# Altium footprint library drone_pcb1.PcbLib: 55 footprints (part 1 of 4)
Each footprint in its own frame and in the unit in brackets; x right, y up, seen from the top. Pads: shape width x height; smd on the part's side, far side on the other; paste and mask are expansions set on the pad; w line width, h text height; cw(c..) or ccw(c..) is an arc to the next point about the centre after c.
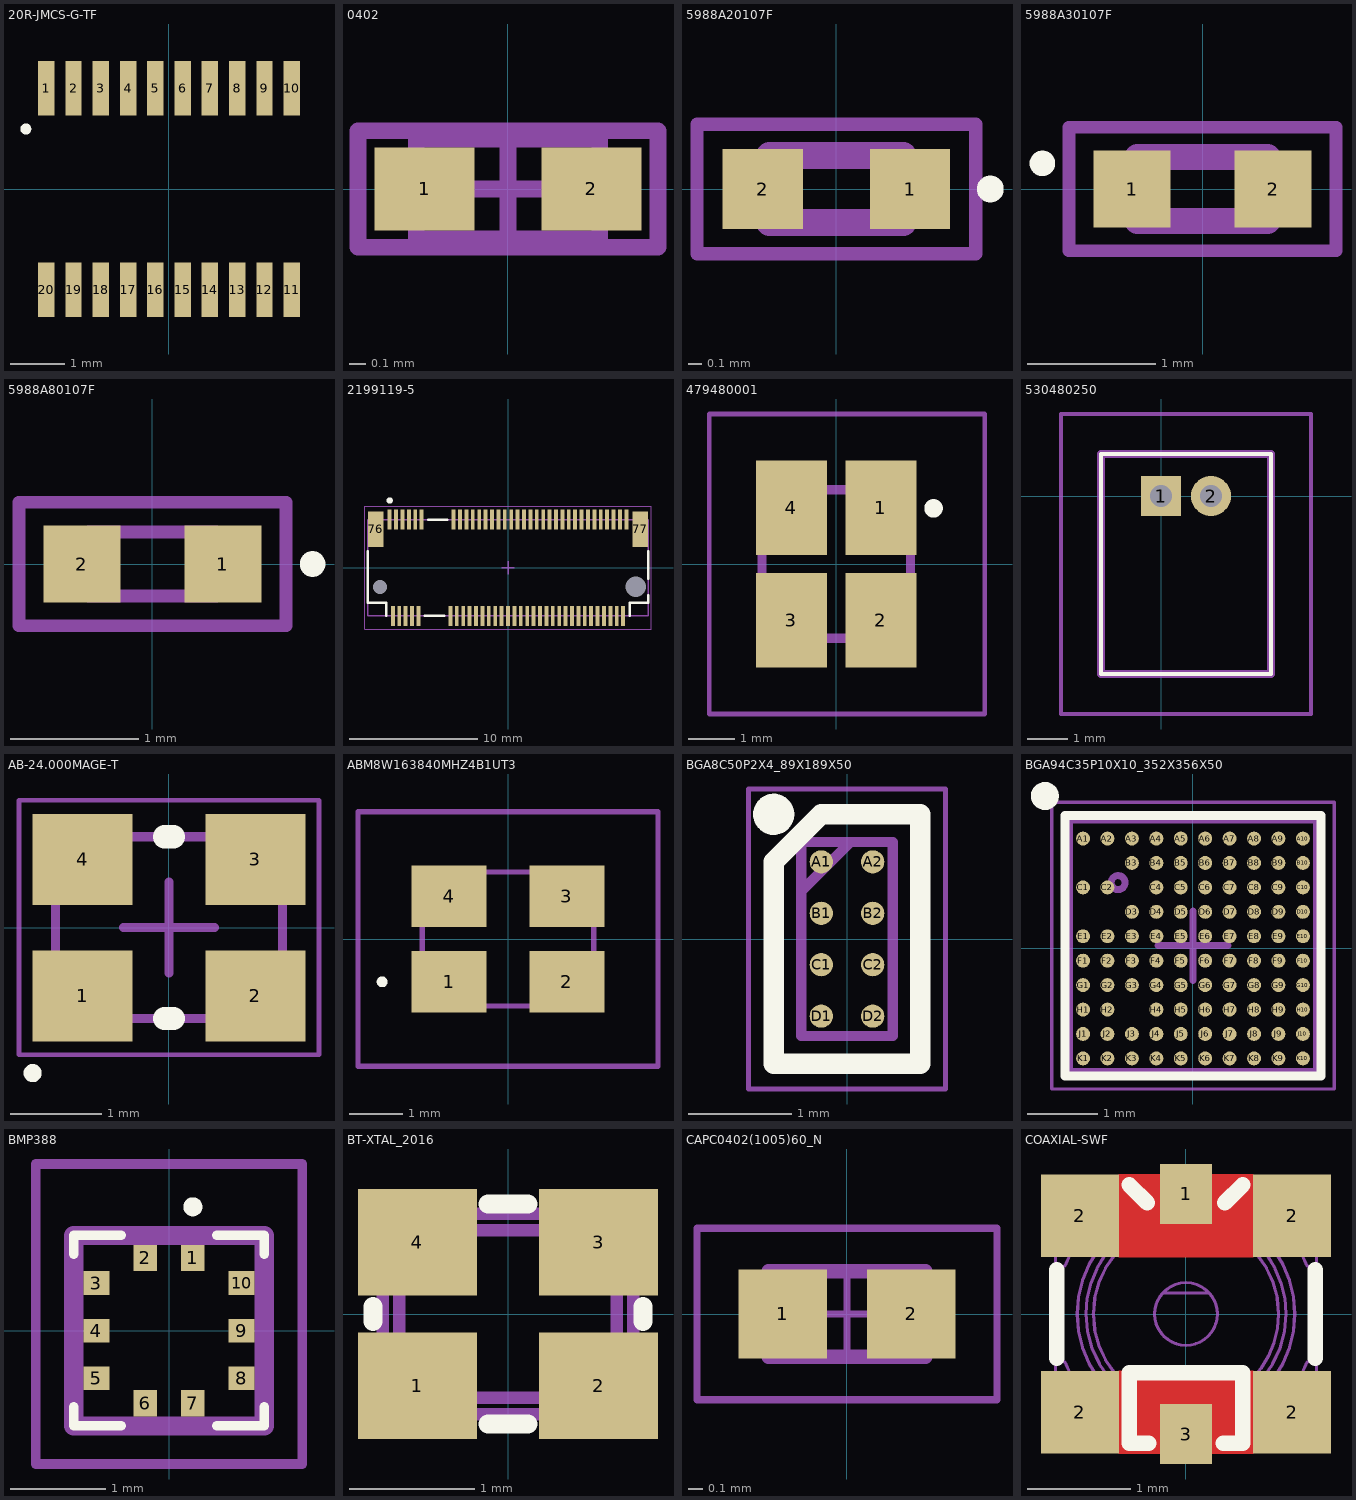
[diagram p0: the footprints below, top view; thin cyan lines are the x and y axes]

## 20R-JMCS-G-TF [mm]
pads (20):
  rect 0.3x1 smd mask+0.102: 1(-2.25,1.85) 2(-1.75,1.85) 3(-1.25,1.85) 4(-0.75,1.85) 5(-0.25,1.85) 6(0.25,1.85) 7(0.75,1.85) 8(1.25,1.85) 9(1.75,1.85) 10(2.25,1.85) 11(2.25,-1.85) 12(1.75,-1.85) 13(1.25,-1.85) 14(0.75,-1.85) 15(0.25,-1.85) 16(-0.25,-1.85) 17(-0.75,-1.85) 18(-1.25,-1.85) 19(-1.75,-1.85) 20(-2.25,-1.85)
Top Overlay:
  circle w0.1: c-2.625,1.1 r0.05

## 0402 [mm] "Chip Capacitor, Body 1.0x0.5mm, IPC High Density"
height 1.3
pads (2):
  rect 0.6x0.5 smd: 1(-0.5,0) 2(0.5,0)
Mechanical 13:
  lines w0.1: -0.55,-0.3 0.55,-0.3 0.55,0.3 -0.55,0.3 -0.55,-0.3
Mechanical 15:
  lines w0.1: -0.3,0 0.3,0 ; 0,-0.3 0,0.3 ; -0.9,-0.35 0.9,-0.35 0.9,0.35 -0.9,0.35 -0.9,-0.35
3D body: height 1.3, standoff 0, extent -0.55,-0.3 0.55,0.3

## 5988A20107F [mm]
pads (2):
  rect 0.6x0.6 smd: 1(0.55,0) 2(-0.55,0)
Top Overlay:
  lines w0.1: 1.1,0 ccw(c1.15,0) 1.2,0 ccw(c1.15,0) 1.1,0
Mechanical 13:
  lines w0.2: -0.5,-0.25 -0.5,0.25 0.5,0.25 0.5,-0.25 -0.5,-0.25
Mechanical 15:
  lines w0.1: -1.041,-0.483 -1.041,0.483 1.041,0.483 1.041,-0.483 -1.041,-0.483

## 5988A30107F [mm]
pads (2):
  rect 0.6x0.6 smd: 1(-0.55,0) 2(0.55,0)
Top Overlay:
  lines w0.1: -1.3,0.2 ccw(c-1.25,0.2) -1.2,0.2 ccw(c-1.25,0.2) -1.3,0.2
Mechanical 13:
  lines w0.2: -0.508,-0.25 -0.508,0.25 0.508,0.25 0.508,-0.25 -0.508,-0.25
Mechanical 15:
  lines w0.1: -1.041,-0.483 1.041,-0.483 1.041,0.483 -1.041,0.483 -1.041,-0.483

## 5988A80107F [mm]
pads (2):
  rect 0.6x0.6 smd: 1(0.55,0) 2(-0.55,0)
Top Overlay:
  lines w0.1: 1.2,0 cw(c1.25,0) 1.3,0 cw(c1.25,0) 1.2,0
Mechanical 13:
  lines w0.1: -0.5,-0.25 -0.5,0.25 0.5,0.25 0.5,-0.25 -0.5,-0.25
Mechanical 15:
  lines w0.1: -1.041,-0.483 -1.041,0.483 1.041,0.483 1.041,-0.483 -1.041,-0.483

## 2199119-5 [mm] "CONN FEMALE 67POS 0.020 GOLD"
height 3.2
pads (71):
  rect 0.3x1.55 smd mask+0.05: 1(-9.25,3.775) 2(-9,-3.775) 3(-8.75,3.775) 4(-8.5,-3.775) 5(-8.25,3.775) 6(-8,-3.775) 7(-7.75,3.775) 8(-7.5,-3.775) 9(-7.25,3.775) 10(-7,-3.775) 11(-6.75,3.775) 20(-4.5,-3.775) 21(-4.25,3.775) 22(-4,-3.775) 23(-3.75,3.775) 24(-3.5,-3.775) 25(-3.25,3.775) 26(-3,-3.775) 27(-2.75,3.775) 28(-2.5,-3.775) 29(-2.25,3.775) 30(-2,-3.775) 31(-1.75,3.775) 32(-1.5,-3.775) 33(-1.25,3.775) 34(-1,-3.775) 35(-0.75,3.775) 36(-0.5,-3.775) 37(-0.25,3.775) 38(0,-3.775) 39(0.25,3.775) 40(0.5,-3.775) 41(0.75,3.775) 42(1,-3.775) 43(1.25,3.775) 44(1.5,-3.775) 45(1.75,3.775) 46(2,-3.775) 47(2.25,3.775) 48(2.5,-3.775) 49(2.75,3.775) 50(3,-3.775) 51(3.25,3.775) 52(3.5,-3.775) 53(3.75,3.775) 54(4,-3.775) 55(4.25,3.775) 56(4.5,-3.775) 57(4.75,3.775) 58(5,-3.775) 59(5.25,3.775) 60(5.5,-3.775) 61(5.75,3.775) 62(6,-3.775) 63(6.25,3.775) 64(6.5,-3.775) 65(6.75,3.775) 66(7,-3.775) 67(7.25,3.775) 68(7.5,-3.775) 69(7.75,3.775) 70(8,-3.775) 71(8.25,3.775) 72(8.5,-3.775) 73(8.75,3.775) 74(9,-3.775) 75(9.25,3.775)
  rect 1.2x2.75 smd: 76(-10.35,3) 77(10.35,3)
  round 0.5 hole 1.1 unplated mask+0.3: ""(-10,-1.5)
  round 1 hole 1.6 unplated mask+0.3: ""(10,-1.5)
Top Overlay:
  circle w0.25: c-9.25,5.25 r0.125
  lines w0.2: -10.95,1.275 -10.95,-2.75 -9.5,-2.75 -9.5,-3.75 ; -6.5,-3.75 -5,-3.75 ; -6.25,3.75 -4.75,3.75 ; 9.5,-3.75 9.5,-2.75 10.95,-2.75 10.95,-2.148 ; 10.95,-0.852 10.95,1.275
Mechanical 12:
  lines w0.1: -10.95,-3.75 -10.95,3.75 10.95,3.75 10.95,-3.75 -10.95,-3.75
Mechanical 15:
  lines w0.05: -11.2,-4.8 -11.2,4.8 11.2,4.8 11.2,-4.8 -11.2,-4.8
  lines w0.1: -0.5,0 0.5,0 ; 0,-0.5 0,0.5
3D body "c-2199119-5-c-3d.stp": height 3.11, standoff -0.51, extent -10.95,-4.35 10.95,4.35

## 479480001 [mm]
pads (4):
  rect 1.54x2.04 smd: 1(0.965,1.215) 2(0.965,-1.215) 3(-0.965,-1.215) 4(-0.965,1.215)
Top Overlay:
  lines w0.2: 2.1,1.1 cw(c2.1,1.2) 2.1,1.3 cw(c2.1,1.2) 2.1,1.1
Mechanical 13:
  lines w0.2: -1.6,-1.6 -1.6,1.6 1.6,1.6 1.6,-1.6 -1.6,-1.6
Mechanical 15:
  lines w0.1: -2.735,-3.235 -2.735,3.235 3.2,3.235 3.2,-3.235 -2.735,-3.235
3D body "47948-0001.stp": height 4, standoff 0, extent -1.6,-1.57 1.54,1.57

## 530480250 [mm]
pads (2):
  rect 1x1 hole 0.55: 1(0,0)
  round 1 hole 0.55: 2(1.25,0)
Top Overlay:
  lines w0.1: -1.5,-4.45 -1.5,1.05 2.75,1.05 2.75,-4.45 -1.5,-4.45
Mechanical 13:
  lines w0.2: -1.5,-4.45 -1.5,1.05 2.75,1.05 2.75,-4.45 -1.5,-4.45
Mechanical 15:
  lines w0.1: -2.5,-5.45 -2.5,2.05 3.75,2.05 3.75,-5.45 -2.5,-5.45
3D body "53048-0250.stp": height 3.3, standoff -2.5, extent -1.505,-4.445 2.745,1.055

## AB-24.000MAGE-T [mm] "Crystal Surface Mount 4-SMD"
height 1
pads (4):
  rect 1.1x1 smd: 1(-0.95,-0.75) 2(0.95,-0.75) 3(0.95,0.75) 4(-0.95,0.75)
Top Overlay:
  circle w0.1: c-1.5,-1.6 r0.05
  lines w0.254: -0.05,-1 0.05,-1 ; -0.05,1 0.05,1
Mechanical 12:
  lines w0.1: -1.25,-1 1.25,-1 1.25,1 -1.25,1 -1.25,-1
Mechanical 15:
  lines w0.05: -1.65,-1.4 1.65,-1.4 1.65,1.4 -1.65,1.4 -1.65,-1.4
  lines w0.1: -0.5,0 0.5,0 ; 0,-0.5 0,0.5
3D body: height 0.8, standoff 0, extent -1.25,-1 1.25,1

## ABM8W163840MHZ4B1UT3 [mm]
pads (4):
  rect 1.4x1.15 smd: 1(-1.1,-0.8) 2(1.1,-0.8) 3(1.1,0.8) 4(-1.1,0.8)
Top Overlay:
  lines w0.1: -2.4,-0.8 ccw(c-2.35,-0.8) -2.3,-0.8 ccw(c-2.35,-0.8) -2.4,-0.8
Mechanical 13:
  lines w0.1: -1.6,-1.25 1.6,-1.25 1.6,1.25 -1.6,1.25 -1.6,-1.25
Mechanical 15:
  lines w0.1: -2.8,-2.375 2.8,-2.375 2.8,2.375 -2.8,2.375 -2.8,-2.375
3D body "ABM8W-16.3840MHZ-4-B1U-T3.stp": height 0.85, standoff 0, extent -1.685,-1.26 1.685,1.26

## BGA8C50P2X4_89X189X50 [mm]
pads (8):
  round 0.226 smd: A1(-0.25,0.75) A2(0.25,0.75) B1(-0.25,0.25) B2(0.25,0.25) C1(-0.25,-0.25) C2(0.25,-0.25) D1(-0.25,-0.75) D2(0.25,-0.75)
Top Overlay:
  circle w0.2: c-0.713,1.213 r0.1
  lines w0.2: -0.713,-1.213 -0.713,0.75 -0.25,1.213 0.713,1.213 0.713,-1.213 -0.713,-1.213
Mechanical 13:
  lines w0.1: -0.444,0.464 0.036,0.944 ; -0.444,-0.944 -0.444,0.944 0.444,0.944 0.444,-0.944 -0.444,-0.944
Mechanical 15:
  lines w0.05: -0.959,-1.459 -0.959,1.459 0.959,1.459 0.959,-1.459 -0.959,-1.459
3D body "TXS0102YZPR.stp": height 0.5, standoff 0, extent -0.444,-0.944 0.444,0.944

## BGA94C35P10X10_352X356X50 [mm]
pads (94):
  round 0.2 smd mask+0.04: A1(-1.575,1.575) A2(-1.225,1.575) A3(-0.875,1.575) A4(-0.525,1.575) A5(-0.175,1.575) A6(0.175,1.575) A7(0.525,1.575) A8(0.875,1.575) A9(1.225,1.575) A10(1.575,1.575) B3(-0.875,1.225) B4(-0.525,1.225) B5(-0.175,1.225) B6(0.175,1.225) B7(0.525,1.225) B8(0.875,1.225) B9(1.225,1.225) B10(1.575,1.225) C1(-1.575,0.875) C2(-1.225,0.875) C4(-0.525,0.875) C5(-0.175,0.875) C6(0.175,0.875) C7(0.525,0.875) C8(0.875,0.875) C9(1.225,0.875) C10(1.575,0.875) D3(-0.875,0.525) D4(-0.525,0.525) D5(-0.175,0.525) D6(0.175,0.525) D7(0.525,0.525) D8(0.875,0.525) D9(1.225,0.525) D10(1.575,0.525) E1(-1.575,0.175) E2(-1.225,0.175) E3(-0.875,0.175) E4(-0.525,0.175) E5(-0.175,0.175) E6(0.175,0.175) E7(0.525,0.175) E8(0.875,0.175) E9(1.225,0.175) E10(1.575,0.175) F1(-1.575,-0.175) F2(-1.225,-0.175) F3(-0.875,-0.175) F4(-0.525,-0.175) F5(-0.175,-0.175) F6(0.175,-0.175) F7(0.525,-0.175) F8(0.875,-0.175) F9(1.225,-0.175) F10(1.575,-0.175) G1(-1.575,-0.525) G2(-1.225,-0.525) G3(-0.875,-0.525) G4(-0.525,-0.525) G5(-0.175,-0.525) G6(0.175,-0.525) G7(0.525,-0.525) G8(0.875,-0.525) G9(1.225,-0.525) G10(1.575,-0.525) H1(-1.575,-0.875) H2(-1.225,-0.875) H4(-0.525,-0.875) H5(-0.175,-0.875) H6(0.175,-0.875) H7(0.525,-0.875) H8(0.875,-0.875) H9(1.225,-0.875) H10(1.575,-0.875) J1(-1.575,-1.225) J2(-1.225,-1.225) J3(-0.875,-1.225) J4(-0.525,-1.225) J5(-0.175,-1.225) J6(0.175,-1.225) J7(0.525,-1.225) J8(0.875,-1.225) J9(1.225,-1.225) J10(1.575,-1.225) K1(-1.575,-1.575) K2(-1.225,-1.575) K3(-0.875,-1.575) K4(-0.525,-1.575) K5(-0.175,-1.575) K6(0.175,-1.575) K7(0.525,-1.575) K8(0.875,-1.575) K9(1.225,-1.575) K10(1.575,-1.575)
Top Overlay:
  circle w0.2: c-2.122,2.184 r0.1
  lines w0.125: -1.834,-1.826 -1.834,1.906 1.835,1.906 1.835,-1.826 -1.834,-1.826
Mechanical 7:
  circle w0.1: c-1.072,0.944 r0.1
  lines w0.1: -1.772,-1.763 1.772,-1.763 1.772,1.844 -1.772,1.844 -1.772,-1.763
  text ".Designator" at -0.7,-0.135 h0.38
Mechanical 15:
  lines w0.05: -2.022,-2.013 2.022,-2.013 2.022,2.094 -2.022,2.094 -2.022,-2.013
  lines w0.1: -0.5,0.04 0.5,0.04 ; 0,-0.46 0,0.54
3D body "Graviton CSP.step": height 0.47, standoff 0, extent -1.772,-1.763 1.772,1.844

## BMP388 [mm]
pads (10):
  rect 0.25x0.275 smd: 1(0.25,0.763) 2(-0.25,0.763) 6(-0.25,-0.763) 7(0.25,-0.763)
  rect 0.275x0.25 smd: 3(-0.762,0.5) 4(-0.762,0) 5(-0.762,-0.5) 8(0.762,-0.5) 9(0.762,0) 10(0.762,0.5)
Top Overlay:
  lines w0.1: -1,-0.8 -1,-1 -0.5,-1 ; -1,0.8 -1,1 -0.5,1 ; 0.5,-1 1,-1 1,-0.8 ; 0.5,1 1,1 1,0.8 ; 0.2,1.3 ccw(c0.25,1.3) 0.3,1.3 ccw(c0.25,1.3) 0.2,1.3
Mechanical 13:
  lines w0.2: -1,-1 -1,1 1,1 1,-1 -1,-1
Mechanical 15:
  lines w0.1: -1.4,-1.4 -1.4,1.75 1.4,1.75 1.4,-1.4 -1.4,-1.4

## BT-XTAL_2016 [mm]
pads (4):
  rect 0.95x0.85 smd: 1(-0.725,-0.575) 2(0.725,-0.575) 3(0.725,0.575) 4(-0.725,0.575)
Top Overlay:
  lines w0.152: -1.08,-0.06 -1.08,0.06 ; -0.16,-0.88 0.16,-0.88 ; -0.16,0.88 0.16,0.88 ; 1.08,-0.06 1.08,0.06
Mechanical 7:
  lines w0.1: -1,-0.7 cw(c-1,-0.8) -0.9,-0.8 0.9,-0.8 cw(c1,-0.8) 1,-0.7 1,0.7 cw(c1,0.8) 0.9,0.8 -0.9,0.8 cw(c-1,0.8) -1,0.7 -1,-0.7 ; -0.87,-0.57 ccw(c-0.77,-0.57) -0.77,-0.67 0.77,-0.67 ccw(c0.77,-0.57) 0.87,-0.57 0.87,0.57 ccw(c0.77,0.57) 0.77,0.67 -0.77,0.67 ccw(c-0.77,0.57) -0.87,0.57 -0.87,-0.57
  text ".Designator" at -0.7,-0.2 h0.38
3D body: height 0.56, standoff 0.15, extent -0.7,-0.65 0.7,0.65
3D body "User Library-GeyerElectronics_KX5.step": height 0.56, standoff 0, extent -1.05,-0.85 1.05,0.85

## CAPC0402(1005)60_N [mm] "Chip Capacitor, Body 1.0x0.5mm, Height 0.6mm, IPC Medium Density"
height 0.6
pads (2):
  rect 0.62x0.62 smd: 1(-0.45,0) 2(0.45,0)
Mechanical 13:
  lines w0.1: -0.55,-0.3 -0.55,0.3 0.55,0.3 0.55,-0.3 -0.55,-0.3
Mechanical 15:
  lines w0.05: -0.3,0 0.3,0 ; 0,-0.3 0,0.3 ; -1.05,-0.6 -1.05,0.6 1.05,0.6 1.05,-0.6 -1.05,-0.6
3D body: height 0.6, standoff 0, extent -0.3,-0.3 0.3,0.3
3D body: height 0.6, standoff 0, extent -0.55,-0.3 -0.3,0.3
3D body: height 0.6, standoff 0, extent 0.3,-0.3 0.55,0.3

## COAXIAL-SWF [mm]
pads (6):
  rect 0.5x0.58 smd: 1(0,1.16) 3(0,-1.16)
  rect 0.75x0.8 smd: 2(-1.025,-0.95) 2(-1.025,0.95) 2(1.025,-0.95) 2(1.025,0.95)
Top Layer:
  pour cut-out: -0.65,0.55 0.65,0.55 0.65,1.35 -0.65,1.35
  pour cut-out: 0.65,-0.55 -0.65,-0.55 -0.65,-1.35 0.65,-1.35
Top Overlay:
  lines w0.15: -1.25,-0.43 -1.25,0.43 ; -0.55,1.25 -0.375,1.075 ; -0.36,-1.25 -0.55,-1.25 -0.55,-0.57 0.55,-0.57 0.55,-1.25 0.36,-1.25 ; 0.375,1.075 0.55,1.25 ; 1.25,-0.43 1.25,0.43
Mechanical 7:
  drawing of 206 lines, arcs and shapes, not listed
  text ".Designator" at -0.785,-0.7 h0.38
3D body: height 1.4, standoff 0.6, extent -0.9,-0.9 0.9,0.901
3D body: height 0.75, standoff 0.6, extent -1.05,-1.049 1.05,1.05
3D body: height 0.95, standoff 0.75, extent -1,-0.999 1,1.001
3D body: height 0.6, standoff 0, extent 0.757,0.655 1.262,1.249
3D body: height 0.6, standoff 0, extent 0.757,-1.246 1.262,-0.653
3D body: height 0.6, standoff 0, extent -1.262,-1.25 -0.757,-0.649
3D body: height 0.6, standoff 0, extent -1.262,0.655 -0.757,1.248
3D body: height 0.55, standoff 0.1, extent -1.262,-1.252 1.262,1.253
3D body: height 0.9, standoff 0.6, extent -1.05,-1.049 1.05,1.05
3D body: height 1.25, standoff 0.95, extent -1.05,-1.049 1.05,1.05
3D body: height 1.55, standoff 1.25, extent -1.05,-1.05 1.05,1.05
3D body: height 0.15, standoff 0, extent -0.227,-1.301 0.227,-0.758
3D body: height 0.15, standoff 0, extent -0.227,0.899 0.227,1.299
3D body: height 0.6, standoff 0.55, extent -1.262,-1.248 1.262,1.251